# EAGLE library part PICO_LOCK_6P (library CYCFI_Con)
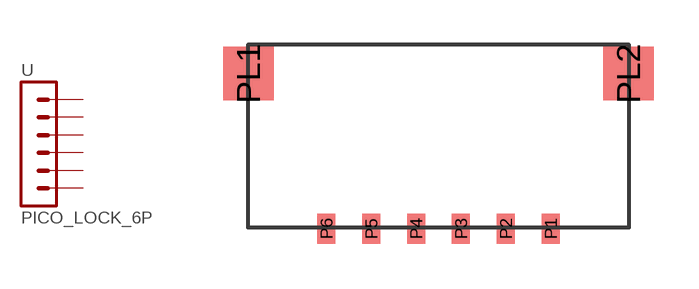
[diagram p17: symbol with the pads of PICO_LOCK_6P; footprint PICO_LOCK_6P]

Designator prefix -

## PICO_LOCK_6P  [PICO_LOCK_6P]
P1  1  pas
P2  2  pas
P3  3  pas
P4  4  pas
P5  5  pas
P6  6  pas

## Footprint PICO_LOCK_6P (pad centres in mm)
smd 0.6 x 1: P1 3.75,-2.6; P2 2.25,-2.6; P3 0.75,-2.6; P4 -0.75,-2.6; P5 -2.25,-2.6; P6 -3.75,-2.6
smd 1.68 x 1.8: PL1 -6.355,2.59; PL2 6.355,2.59